# Altium integrated library WD Peripheral FD Controller.IntLib: 42 symbols
Pins are listed as number, name and electrical type; pins without a type are passive.

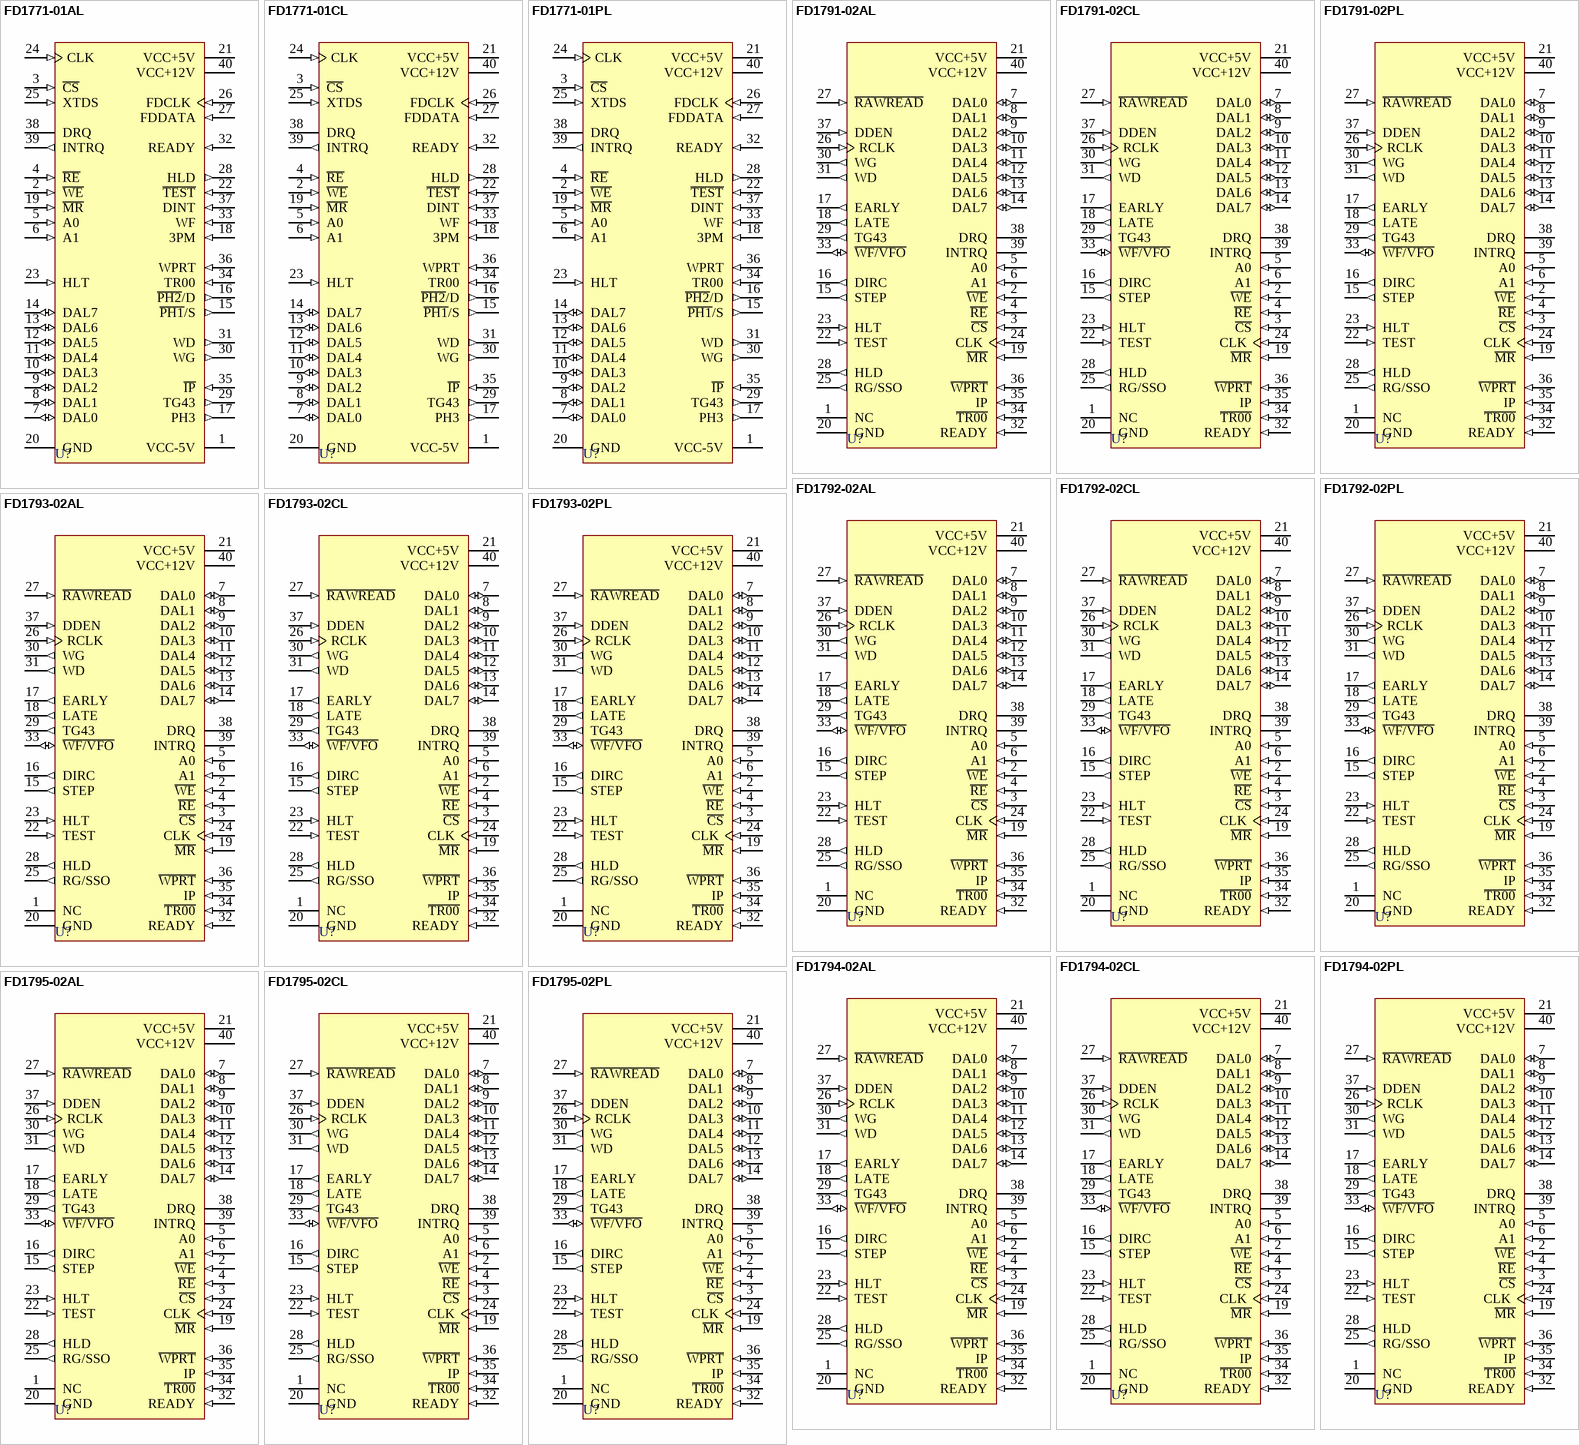
[diagram p0: symbols FD1771-01AL to FD1795-02PL]

## FD1771-01AL
designator U?
Floppy Disk Formatter/Controller; PackageDocument: 1984; Published: 8-Jun-2000; LatestRevisionDate: 4-Mar-2005; LatestRevisionNote: Stylized 3D Model Added.; DatasheetDocument: 1984; PackageReference: AL40; Publisher: Altium Limited; ComponentLink1Description: Manufacturer Link; ComponentLink1URL: http://www.wdc.com/
footprint AL40 (DIP; 40 Leads; Row Spacing 15.24 mm; Pitch 2.54 mm)
3D model AL40 (DIP; 40 Leads; Row Spacing 15.24 mm; Pitch 2.54 mm)
pins: 1 VCC-5V (power), 2 ~{WE} (in), 3 ~{CS} (in), 4 ~{RE} (in), 5 A0 (in), 6 A1 (in), 7 DAL0 (io), 8 DAL1 (io), 9 DAL2 (io), 10 DAL3 (io), 11 DAL4 (io), 12 DAL5 (io), 13 DAL6 (io), 14 DAL7 (io), 15 ~{PH1}/S (out), 16 ~{PH2}/D (out), 17 PH3 (out), 18 3PM (in), 19 ~{MR} (in), 20 GND (power), 21 VCC+5V (power), 22 ~{TEST} (in), 23 HLT (in), 24 CLK (in), 25 XTDS (in), 26 FDCLK (in), 27 FDDATA (in), 28 HLD (out), 29 TG43 (out), 30 WG (out), 31 WD (out), 32 READY (in), 33 WF (in), 34 TR00 (in), 35 ~{IP} (in), 36 WPRT (in), 37 DINT (in), 38 DRQ (oc), 39 INTRQ (out), 40 VCC+12V (power)

## FD1771-01CL
designator U?
Floppy Disk Formatter/Controller; PackageDocument: 1984; Published: 8-Jun-2000; LatestRevisionDate: 4-Mar-2005; LatestRevisionNote: Stylized 3D Model Added.; DatasheetDocument: 1984; PackageReference: CL40; Publisher: Altium Limited; ComponentLink1Description: Manufacturer Link; ComponentLink1URL: http://www.wdc.com/
footprint CL40 (DIP; 40 Leads; Row Spacing 15.24 mm; Pitch 2.54 mm)
3D model PL40 (DIP; 40 Leads; Row Spacing 15.24 mm; Pitch 2.54 mm)
pins: 1 VCC-5V (power), 2 ~{WE} (in), 3 ~{CS} (in), 4 ~{RE} (in), 5 A0 (in), 6 A1 (in), 7 DAL0 (io), 8 DAL1 (io), 9 DAL2 (io), 10 DAL3 (io), 11 DAL4 (io), 12 DAL5 (io), 13 DAL6 (io), 14 DAL7 (io), 15 ~{PH1}/S (out), 16 ~{PH2}/D (out), 17 PH3 (out), 18 3PM (in), 19 ~{MR} (in), 20 GND (power), 21 VCC+5V (power), 22 ~{TEST} (in), 23 HLT (in), 24 CLK (in), 25 XTDS (in), 26 FDCLK (in), 27 FDDATA (in), 28 HLD (out), 29 TG43 (out), 30 WG (out), 31 WD (out), 32 READY (in), 33 WF (in), 34 TR00 (in), 35 ~{IP} (in), 36 WPRT (in), 37 DINT (in), 38 DRQ (oc), 39 INTRQ (out), 40 VCC+12V (power)

## FD1771-01PL
designator U?
Floppy Disk Formatter/Controller; PackageDocument: 1984; Published: 8-Jun-2000; LatestRevisionDate: 4-Mar-2005; LatestRevisionNote: Stylized 3D Model Added.; DatasheetDocument: 1984; PackageReference: PL40; Publisher: Altium Limited; ComponentLink1Description: Manufacturer Link; ComponentLink1URL: http://www.wdc.com/
footprint PL40 (DIP; 40 Leads; Row Spacing 15.24 mm; Pitch 2.54 mm)
3D model PL40 (DIP; 40 Leads; Row Spacing 15.24 mm; Pitch 2.54 mm)
pins: 1 VCC-5V (power), 2 ~{WE} (in), 3 ~{CS} (in), 4 ~{RE} (in), 5 A0 (in), 6 A1 (in), 7 DAL0 (io), 8 DAL1 (io), 9 DAL2 (io), 10 DAL3 (io), 11 DAL4 (io), 12 DAL5 (io), 13 DAL6 (io), 14 DAL7 (io), 15 ~{PH1}/S (out), 16 ~{PH2}/D (out), 17 PH3 (out), 18 3PM (in), 19 ~{MR} (in), 20 GND (power), 21 VCC+5V (power), 22 ~{TEST} (in), 23 HLT (in), 24 CLK (in), 25 XTDS (in), 26 FDCLK (in), 27 FDDATA (in), 28 HLD (out), 29 TG43 (out), 30 WG (out), 31 WD (out), 32 READY (in), 33 WF (in), 34 TR00 (in), 35 ~{IP} (in), 36 WPRT (in), 37 DINT (in), 38 DRQ (oc), 39 INTRQ (out), 40 VCC+12V (power)

## FD1791-02AL
designator U?
Floppy Disk Formatter/Controller; PackageDocument: 1984; Published: 8-Jun-2000; LatestRevisionDate: 4-Mar-2005; LatestRevisionNote: Stylized 3D Model Added.; DatasheetDocument: 1984; PackageReference: AL40; Publisher: Altium Limited; ComponentLink1Description: Manufacturer Link; ComponentLink1URL: http://www.wdc.com/
footprint AL40 (DIP; 40 Leads; Row Spacing 15.24 mm; Pitch 2.54 mm)
3D model AL40 (DIP; 40 Leads; Row Spacing 15.24 mm; Pitch 2.54 mm)
pins: 1 NC, 2 ~{WE} (in), 3 ~{CS} (in), 4 ~{RE} (in), 5 A0 (in), 6 A1 (in), 7 DAL0 (io), 8 DAL1 (io), 9 DAL2 (io), 10 DAL3 (io), 11 DAL4 (io), 12 DAL5 (io), 13 DAL6 (io), 14 DAL7 (io), 15 STEP (out), 16 DIRC (out), 17 EARLY (out), 18 LATE (out), 19 ~{MR} (in), 20 GND (power), 21 VCC+5V (power), 22 TEST (in), 23 HLT (in), 24 CLK (in), 25 RG/SSO (out), 26 RCLK (in), 27 ~{RAWREAD} (in), 28 HLD (out), 29 TG43 (out), 30 WG (out), 31 WD (out), 32 READY (in), 33 ~{WF/VFO} (io), 34 ~{TR00} (in), 35 IP (in), 36 ~{WPRT} (in), 37 DDEN (in), 38 DRQ (oc), 39 INTRQ (oc), 40 VCC+12V (power)

## FD1791-02CL
designator U?
Floppy Disk Formatter/Controller; PackageDocument: 1984; Published: 8-Jun-2000; LatestRevisionDate: 4-Mar-2005; LatestRevisionNote: Stylized 3D Model Added.; DatasheetDocument: 1984; PackageReference: CL40; Publisher: Altium Limited; ComponentLink1Description: Manufacturer Link; ComponentLink1URL: http://www.wdc.com/
footprint CL40 (DIP; 40 Leads; Row Spacing 15.24 mm; Pitch 2.54 mm)
3D model PL40 (DIP; 40 Leads; Row Spacing 15.24 mm; Pitch 2.54 mm)
pins: 1 NC, 2 ~{WE} (in), 3 ~{CS} (in), 4 ~{RE} (in), 5 A0 (in), 6 A1 (in), 7 DAL0 (io), 8 DAL1 (io), 9 DAL2 (io), 10 DAL3 (io), 11 DAL4 (io), 12 DAL5 (io), 13 DAL6 (io), 14 DAL7 (io), 15 STEP (out), 16 DIRC (out), 17 EARLY (out), 18 LATE (out), 19 ~{MR} (in), 20 GND (power), 21 VCC+5V (power), 22 TEST (in), 23 HLT (in), 24 CLK (in), 25 RG/SSO (out), 26 RCLK (in), 27 ~{RAWREAD} (in), 28 HLD (out), 29 TG43 (out), 30 WG (out), 31 WD (out), 32 READY (in), 33 ~{WF/VFO} (io), 34 ~{TR00} (in), 35 IP (in), 36 ~{WPRT} (in), 37 DDEN (in), 38 DRQ (oc), 39 INTRQ (oc), 40 VCC+12V (power)

## FD1791-02PL
designator U?
Floppy Disk Formatter/Controller; PackageDocument: 1984; Published: 8-Jun-2000; LatestRevisionDate: 4-Mar-2005; LatestRevisionNote: Stylized 3D Model Added.; DatasheetDocument: 1984; PackageReference: PL40; Publisher: Altium Limited; ComponentLink1Description: Manufacturer Link; ComponentLink1URL: http://www.wdc.com/
footprint PL40 (DIP; 40 Leads; Row Spacing 15.24 mm; Pitch 2.54 mm)
3D model PL40 (DIP; 40 Leads; Row Spacing 15.24 mm; Pitch 2.54 mm)
pins: 1 NC, 2 ~{WE} (in), 3 ~{CS} (in), 4 ~{RE} (in), 5 A0 (in), 6 A1 (in), 7 DAL0 (io), 8 DAL1 (io), 9 DAL2 (io), 10 DAL3 (io), 11 DAL4 (io), 12 DAL5 (io), 13 DAL6 (io), 14 DAL7 (io), 15 STEP (out), 16 DIRC (out), 17 EARLY (out), 18 LATE (out), 19 ~{MR} (in), 20 GND (power), 21 VCC+5V (power), 22 TEST (in), 23 HLT (in), 24 CLK (in), 25 RG/SSO (out), 26 RCLK (in), 27 ~{RAWREAD} (in), 28 HLD (out), 29 TG43 (out), 30 WG (out), 31 WD (out), 32 READY (in), 33 ~{WF/VFO} (io), 34 ~{TR00} (in), 35 IP (in), 36 ~{WPRT} (in), 37 DDEN (in), 38 DRQ (oc), 39 INTRQ (oc), 40 VCC+12V (power)

## FD1792-02AL
designator U?
Floppy Disk Formatter/Controller; PackageDocument: 1984; Published: 8-Jun-2000; LatestRevisionDate: 4-Mar-2005; LatestRevisionNote: Stylized 3D Model Added.; DatasheetDocument: 1984; PackageReference: AL40; Publisher: Altium Limited; ComponentLink1Description: Manufacturer Link; ComponentLink1URL: http://www.wdc.com/
footprint AL40 (DIP; 40 Leads; Row Spacing 15.24 mm; Pitch 2.54 mm)
3D model AL40 (DIP; 40 Leads; Row Spacing 15.24 mm; Pitch 2.54 mm)
pins: 1 NC, 2 ~{WE} (in), 3 ~{CS} (in), 4 ~{RE} (in), 5 A0 (in), 6 A1 (in), 7 DAL0 (io), 8 DAL1 (io), 9 DAL2 (io), 10 DAL3 (io), 11 DAL4 (io), 12 DAL5 (io), 13 DAL6 (io), 14 DAL7 (io), 15 STEP (out), 16 DIRC (out), 17 EARLY (out), 18 LATE (out), 19 ~{MR} (in), 20 GND (power), 21 VCC+5V (power), 22 TEST (in), 23 HLT (in), 24 CLK (in), 25 RG/SSO (out), 26 RCLK (in), 27 ~{RAWREAD} (in), 28 HLD (out), 29 TG43 (out), 30 WG (out), 31 WD (out), 32 READY (in), 33 ~{WF/VFO} (io), 34 ~{TR00} (in), 35 IP (in), 36 ~{WPRT} (in), 37 DDEN (in), 38 DRQ (oc), 39 INTRQ (oc), 40 VCC+12V (power)

## FD1792-02CL
designator U?
Floppy Disk Formatter/Controller; PackageDocument: 1984; Published: 8-Jun-2000; LatestRevisionDate: 4-Mar-2005; LatestRevisionNote: Stylized 3D Model Added.; DatasheetDocument: 1984; PackageReference: CL40; Publisher: Altium Limited; ComponentLink1Description: Manufacturer Link; ComponentLink1URL: http://www.wdc.com/
footprint CL40 (DIP; 40 Leads; Row Spacing 15.24 mm; Pitch 2.54 mm)
3D model PL40 (DIP; 40 Leads; Row Spacing 15.24 mm; Pitch 2.54 mm)
pins: 1 NC, 2 ~{WE} (in), 3 ~{CS} (in), 4 ~{RE} (in), 5 A0 (in), 6 A1 (in), 7 DAL0 (io), 8 DAL1 (io), 9 DAL2 (io), 10 DAL3 (io), 11 DAL4 (io), 12 DAL5 (io), 13 DAL6 (io), 14 DAL7 (io), 15 STEP (out), 16 DIRC (out), 17 EARLY (out), 18 LATE (out), 19 ~{MR} (in), 20 GND (power), 21 VCC+5V (power), 22 TEST (in), 23 HLT (in), 24 CLK (in), 25 RG/SSO (out), 26 RCLK (in), 27 ~{RAWREAD} (in), 28 HLD (out), 29 TG43 (out), 30 WG (out), 31 WD (out), 32 READY (in), 33 ~{WF/VFO} (io), 34 ~{TR00} (in), 35 IP (in), 36 ~{WPRT} (in), 37 DDEN (in), 38 DRQ (oc), 39 INTRQ (oc), 40 VCC+12V (power)

## FD1792-02PL
designator U?
Floppy Disk Formatter/Controller; PackageDocument: 1984; Published: 8-Jun-2000; LatestRevisionDate: 4-Mar-2005; LatestRevisionNote: Stylized 3D Model Added.; DatasheetDocument: 1984; PackageReference: PL40; Publisher: Altium Limited; ComponentLink1Description: Manufacturer Link; ComponentLink1URL: http://www.wdc.com/
footprint PL40 (DIP; 40 Leads; Row Spacing 15.24 mm; Pitch 2.54 mm)
3D model PL40 (DIP; 40 Leads; Row Spacing 15.24 mm; Pitch 2.54 mm)
pins: 1 NC, 2 ~{WE} (in), 3 ~{CS} (in), 4 ~{RE} (in), 5 A0 (in), 6 A1 (in), 7 DAL0 (io), 8 DAL1 (io), 9 DAL2 (io), 10 DAL3 (io), 11 DAL4 (io), 12 DAL5 (io), 13 DAL6 (io), 14 DAL7 (io), 15 STEP (out), 16 DIRC (out), 17 EARLY (out), 18 LATE (out), 19 ~{MR} (in), 20 GND (power), 21 VCC+5V (power), 22 TEST (in), 23 HLT (in), 24 CLK (in), 25 RG/SSO (out), 26 RCLK (in), 27 ~{RAWREAD} (in), 28 HLD (out), 29 TG43 (out), 30 WG (out), 31 WD (out), 32 READY (in), 33 ~{WF/VFO} (io), 34 ~{TR00} (in), 35 IP (in), 36 ~{WPRT} (in), 37 DDEN (in), 38 DRQ (oc), 39 INTRQ (oc), 40 VCC+12V (power)

## FD1793-02AL
designator U?
Floppy Disk Formatter/Controller; PackageDocument: 1984; Published: 8-Jun-2000; LatestRevisionDate: 4-Mar-2005; LatestRevisionNote: Stylized 3D Model Added.; DatasheetDocument: 1984; PackageReference: AL40; Publisher: Altium Limited; ComponentLink1Description: Manufacturer Link; ComponentLink1URL: http://www.wdc.com/
footprint AL40 (DIP; 40 Leads; Row Spacing 15.24 mm; Pitch 2.54 mm)
3D model AL40 (DIP; 40 Leads; Row Spacing 15.24 mm; Pitch 2.54 mm)
pins: 1 NC, 2 ~{WE} (in), 3 ~{CS} (in), 4 ~{RE} (in), 5 A0 (in), 6 A1 (in), 7 DAL0 (io), 8 DAL1 (io), 9 DAL2 (io), 10 DAL3 (io), 11 DAL4 (io), 12 DAL5 (io), 13 DAL6 (io), 14 DAL7 (io), 15 STEP (out), 16 DIRC (out), 17 EARLY (out), 18 LATE (out), 19 ~{MR} (in), 20 GND (power), 21 VCC+5V (power), 22 TEST (in), 23 HLT (in), 24 CLK (in), 25 RG/SSO (out), 26 RCLK (in), 27 ~{RAWREAD} (in), 28 HLD (out), 29 TG43 (out), 30 WG (out), 31 WD (out), 32 READY (in), 33 ~{WF/VFO} (io), 34 ~{TR00} (in), 35 IP (in), 36 ~{WPRT} (in), 37 DDEN (in), 38 DRQ (oc), 39 INTRQ (oc), 40 VCC+12V (power)

## FD1793-02CL
designator U?
Floppy Disk Formatter/Controller; PackageDocument: 1984; Published: 8-Jun-2000; LatestRevisionDate: 4-Mar-2005; LatestRevisionNote: Stylized 3D Model Added.; DatasheetDocument: 1984; PackageReference: CL40; Publisher: Altium Limited; ComponentLink1Description: Manufacturer Link; ComponentLink1URL: http://www.wdc.com/
footprint CL40 (DIP; 40 Leads; Row Spacing 15.24 mm; Pitch 2.54 mm)
3D model PL40 (DIP; 40 Leads; Row Spacing 15.24 mm; Pitch 2.54 mm)
pins: 1 NC, 2 ~{WE} (in), 3 ~{CS} (in), 4 ~{RE} (in), 5 A0 (in), 6 A1 (in), 7 DAL0 (io), 8 DAL1 (io), 9 DAL2 (io), 10 DAL3 (io), 11 DAL4 (io), 12 DAL5 (io), 13 DAL6 (io), 14 DAL7 (io), 15 STEP (out), 16 DIRC (out), 17 EARLY (out), 18 LATE (out), 19 ~{MR} (in), 20 GND (power), 21 VCC+5V (power), 22 TEST (in), 23 HLT (in), 24 CLK (in), 25 RG/SSO (out), 26 RCLK (in), 27 ~{RAWREAD} (in), 28 HLD (out), 29 TG43 (out), 30 WG (out), 31 WD (out), 32 READY (in), 33 ~{WF/VFO} (io), 34 ~{TR00} (in), 35 IP (in), 36 ~{WPRT} (in), 37 DDEN (in), 38 DRQ (oc), 39 INTRQ (oc), 40 VCC+12V (power)

## FD1793-02PL
designator U?
Floppy Disk Formatter/Controller; PackageDocument: 1984; Published: 8-Jun-2000; LatestRevisionDate: 4-Mar-2005; LatestRevisionNote: Stylized 3D Model Added.; DatasheetDocument: 1984; PackageReference: PL40; Publisher: Altium Limited; ComponentLink1Description: Manufacturer Link; ComponentLink1URL: http://www.wdc.com/
footprint PL40 (DIP; 40 Leads; Row Spacing 15.24 mm; Pitch 2.54 mm)
3D model PL40 (DIP; 40 Leads; Row Spacing 15.24 mm; Pitch 2.54 mm)
pins: 1 NC, 2 ~{WE} (in), 3 ~{CS} (in), 4 ~{RE} (in), 5 A0 (in), 6 A1 (in), 7 DAL0 (io), 8 DAL1 (io), 9 DAL2 (io), 10 DAL3 (io), 11 DAL4 (io), 12 DAL5 (io), 13 DAL6 (io), 14 DAL7 (io), 15 STEP (out), 16 DIRC (out), 17 EARLY (out), 18 LATE (out), 19 ~{MR} (in), 20 GND (power), 21 VCC+5V (power), 22 TEST (in), 23 HLT (in), 24 CLK (in), 25 RG/SSO (out), 26 RCLK (in), 27 ~{RAWREAD} (in), 28 HLD (out), 29 TG43 (out), 30 WG (out), 31 WD (out), 32 READY (in), 33 ~{WF/VFO} (io), 34 ~{TR00} (in), 35 IP (in), 36 ~{WPRT} (in), 37 DDEN (in), 38 DRQ (oc), 39 INTRQ (oc), 40 VCC+12V (power)

## FD1794-02AL
designator U?
Floppy Disk Formatter/Controller; PackageDocument: 1984; Published: 8-Jun-2000; LatestRevisionDate: 4-Mar-2005; LatestRevisionNote: Stylized 3D Model Added.; DatasheetDocument: 1984; PackageReference: AL40; Publisher: Altium Limited; ComponentLink1Description: Manufacturer Link; ComponentLink1URL: http://www.wdc.com/
footprint AL40 (DIP; 40 Leads; Row Spacing 15.24 mm; Pitch 2.54 mm)
3D model AL40 (DIP; 40 Leads; Row Spacing 15.24 mm; Pitch 2.54 mm)
pins: 1 NC, 2 ~{WE} (in), 3 ~{CS} (in), 4 ~{RE} (in), 5 A0 (in), 6 A1 (in), 7 DAL0 (io), 8 DAL1 (io), 9 DAL2 (io), 10 DAL3 (io), 11 DAL4 (io), 12 DAL5 (io), 13 DAL6 (io), 14 DAL7 (io), 15 STEP (out), 16 DIRC (out), 17 EARLY (out), 18 LATE (out), 19 ~{MR} (in), 20 GND (power), 21 VCC+5V (power), 22 TEST (in), 23 HLT (in), 24 CLK (in), 25 RG/SSO (out), 26 RCLK (in), 27 ~{RAWREAD} (in), 28 HLD (out), 29 TG43 (out), 30 WG (out), 31 WD (out), 32 READY (in), 33 ~{WF/VFO} (io), 34 ~{TR00} (in), 35 IP (in), 36 ~{WPRT} (in), 37 DDEN (in), 38 DRQ (oc), 39 INTRQ (oc), 40 VCC+12V (power)

## FD1794-02CL
designator U?
Floppy Disk Formatter/Controller; PackageDocument: 1984; Published: 8-Jun-2000; LatestRevisionDate: 4-Mar-2005; LatestRevisionNote: Stylized 3D Model Added.; DatasheetDocument: 1984; PackageReference: CL40; Publisher: Altium Limited; ComponentLink1Description: Manufacturer Link; ComponentLink1URL: http://www.wdc.com/
footprint CL40 (DIP; 40 Leads; Row Spacing 15.24 mm; Pitch 2.54 mm)
3D model PL40 (DIP; 40 Leads; Row Spacing 15.24 mm; Pitch 2.54 mm)
pins: 1 NC, 2 ~{WE} (in), 3 ~{CS} (in), 4 ~{RE} (in), 5 A0 (in), 6 A1 (in), 7 DAL0 (io), 8 DAL1 (io), 9 DAL2 (io), 10 DAL3 (io), 11 DAL4 (io), 12 DAL5 (io), 13 DAL6 (io), 14 DAL7 (io), 15 STEP (out), 16 DIRC (out), 17 EARLY (out), 18 LATE (out), 19 ~{MR} (in), 20 GND (power), 21 VCC+5V (power), 22 TEST (in), 23 HLT (in), 24 CLK (in), 25 RG/SSO (out), 26 RCLK (in), 27 ~{RAWREAD} (in), 28 HLD (out), 29 TG43 (out), 30 WG (out), 31 WD (out), 32 READY (in), 33 ~{WF/VFO} (io), 34 ~{TR00} (in), 35 IP (in), 36 ~{WPRT} (in), 37 DDEN (in), 38 DRQ (oc), 39 INTRQ (oc), 40 VCC+12V (power)

## FD1794-02PL
designator U?
Floppy Disk Formatter/Controller; PackageDocument: 1984; Published: 8-Jun-2000; LatestRevisionDate: 4-Mar-2005; LatestRevisionNote: Stylized 3D Model Added.; DatasheetDocument: 1984; PackageReference: PL40; Publisher: Altium Limited; ComponentLink1Description: Manufacturer Link; ComponentLink1URL: http://www.wdc.com/
footprint PL40 (DIP; 40 Leads; Row Spacing 15.24 mm; Pitch 2.54 mm)
3D model PL40 (DIP; 40 Leads; Row Spacing 15.24 mm; Pitch 2.54 mm)
pins: 1 NC, 2 ~{WE} (in), 3 ~{CS} (in), 4 ~{RE} (in), 5 A0 (in), 6 A1 (in), 7 DAL0 (io), 8 DAL1 (io), 9 DAL2 (io), 10 DAL3 (io), 11 DAL4 (io), 12 DAL5 (io), 13 DAL6 (io), 14 DAL7 (io), 15 STEP (out), 16 DIRC (out), 17 EARLY (out), 18 LATE (out), 19 ~{MR} (in), 20 GND (power), 21 VCC+5V (power), 22 TEST (in), 23 HLT (in), 24 CLK (in), 25 RG/SSO (out), 26 RCLK (in), 27 ~{RAWREAD} (in), 28 HLD (out), 29 TG43 (out), 30 WG (out), 31 WD (out), 32 READY (in), 33 ~{WF/VFO} (io), 34 ~{TR00} (in), 35 IP (in), 36 ~{WPRT} (in), 37 DDEN (in), 38 DRQ (oc), 39 INTRQ (oc), 40 VCC+12V (power)

## FD1795-02AL
designator U?
Floppy Disk Formatter/Controller; PackageDocument: 1984; Published: 8-Jun-2000; LatestRevisionDate: 4-Mar-2005; LatestRevisionNote: Stylized 3D Model Added.; DatasheetDocument: 1984; PackageReference: AL40; Publisher: Altium Limited; ComponentLink1Description: Manufacturer Link; ComponentLink1URL: http://www.wdc.com/
footprint AL40 (DIP; 40 Leads; Row Spacing 15.24 mm; Pitch 2.54 mm)
3D model AL40 (DIP; 40 Leads; Row Spacing 15.24 mm; Pitch 2.54 mm)
pins: 1 NC, 2 ~{WE} (in), 3 ~{CS} (in), 4 ~{RE} (in), 5 A0 (in), 6 A1 (in), 7 DAL0 (io), 8 DAL1 (io), 9 DAL2 (io), 10 DAL3 (io), 11 DAL4 (io), 12 DAL5 (io), 13 DAL6 (io), 14 DAL7 (io), 15 STEP (out), 16 DIRC (out), 17 EARLY (out), 18 LATE (out), 19 ~{MR} (in), 20 GND (power), 21 VCC+5V (power), 22 TEST (in), 23 HLT (in), 24 CLK (in), 25 RG/SSO (out), 26 RCLK (in), 27 ~{RAWREAD} (in), 28 HLD (out), 29 TG43 (out), 30 WG (out), 31 WD (out), 32 READY (in), 33 ~{WF/VFO} (io), 34 ~{TR00} (in), 35 IP (in), 36 ~{WPRT} (in), 37 DDEN (in), 38 DRQ (oc), 39 INTRQ (oc), 40 VCC+12V (power)

## FD1795-02CL
designator U?
Floppy Disk Formatter/Controller; PackageDocument: 1984; Published: 8-Jun-2000; LatestRevisionDate: 4-Mar-2005; LatestRevisionNote: Stylized 3D Model Added.; DatasheetDocument: 1984; PackageReference: CL40; Publisher: Altium Limited; ComponentLink1Description: Manufacturer Link; ComponentLink1URL: http://www.wdc.com/
footprint CL40 (DIP; 40 Leads; Row Spacing 15.24 mm; Pitch 2.54 mm)
3D model PL40 (DIP; 40 Leads; Row Spacing 15.24 mm; Pitch 2.54 mm)
pins: 1 NC, 2 ~{WE} (in), 3 ~{CS} (in), 4 ~{RE} (in), 5 A0 (in), 6 A1 (in), 7 DAL0 (io), 8 DAL1 (io), 9 DAL2 (io), 10 DAL3 (io), 11 DAL4 (io), 12 DAL5 (io), 13 DAL6 (io), 14 DAL7 (io), 15 STEP (out), 16 DIRC (out), 17 EARLY (out), 18 LATE (out), 19 ~{MR} (in), 20 GND (power), 21 VCC+5V (power), 22 TEST (in), 23 HLT (in), 24 CLK (in), 25 RG/SSO (out), 26 RCLK (in), 27 ~{RAWREAD} (in), 28 HLD (out), 29 TG43 (out), 30 WG (out), 31 WD (out), 32 READY (in), 33 ~{WF/VFO} (io), 34 ~{TR00} (in), 35 IP (in), 36 ~{WPRT} (in), 37 DDEN (in), 38 DRQ (oc), 39 INTRQ (oc), 40 VCC+12V (power)

## FD1795-02PL
designator U?
Floppy Disk Formatter/Controller; PackageDocument: 1984; Published: 8-Jun-2000; LatestRevisionDate: 4-Mar-2005; LatestRevisionNote: Stylized 3D Model Added.; DatasheetDocument: 1984; PackageReference: PL40; Publisher: Altium Limited; ComponentLink1Description: Manufacturer Link; ComponentLink1URL: http://www.wdc.com/
footprint PL40 (DIP; 40 Leads; Row Spacing 15.24 mm; Pitch 2.54 mm)
3D model PL40 (DIP; 40 Leads; Row Spacing 15.24 mm; Pitch 2.54 mm)
pins: 1 NC, 2 ~{WE} (in), 3 ~{CS} (in), 4 ~{RE} (in), 5 A0 (in), 6 A1 (in), 7 DAL0 (io), 8 DAL1 (io), 9 DAL2 (io), 10 DAL3 (io), 11 DAL4 (io), 12 DAL5 (io), 13 DAL6 (io), 14 DAL7 (io), 15 STEP (out), 16 DIRC (out), 17 EARLY (out), 18 LATE (out), 19 ~{MR} (in), 20 GND (power), 21 VCC+5V (power), 22 TEST (in), 23 HLT (in), 24 CLK (in), 25 RG/SSO (out), 26 RCLK (in), 27 ~{RAWREAD} (in), 28 HLD (out), 29 TG43 (out), 30 WG (out), 31 WD (out), 32 READY (in), 33 ~{WF/VFO} (io), 34 ~{TR00} (in), 35 IP (in), 36 ~{WPRT} (in), 37 DDEN (in), 38 DRQ (oc), 39 INTRQ (oc), 40 VCC+12V (power)

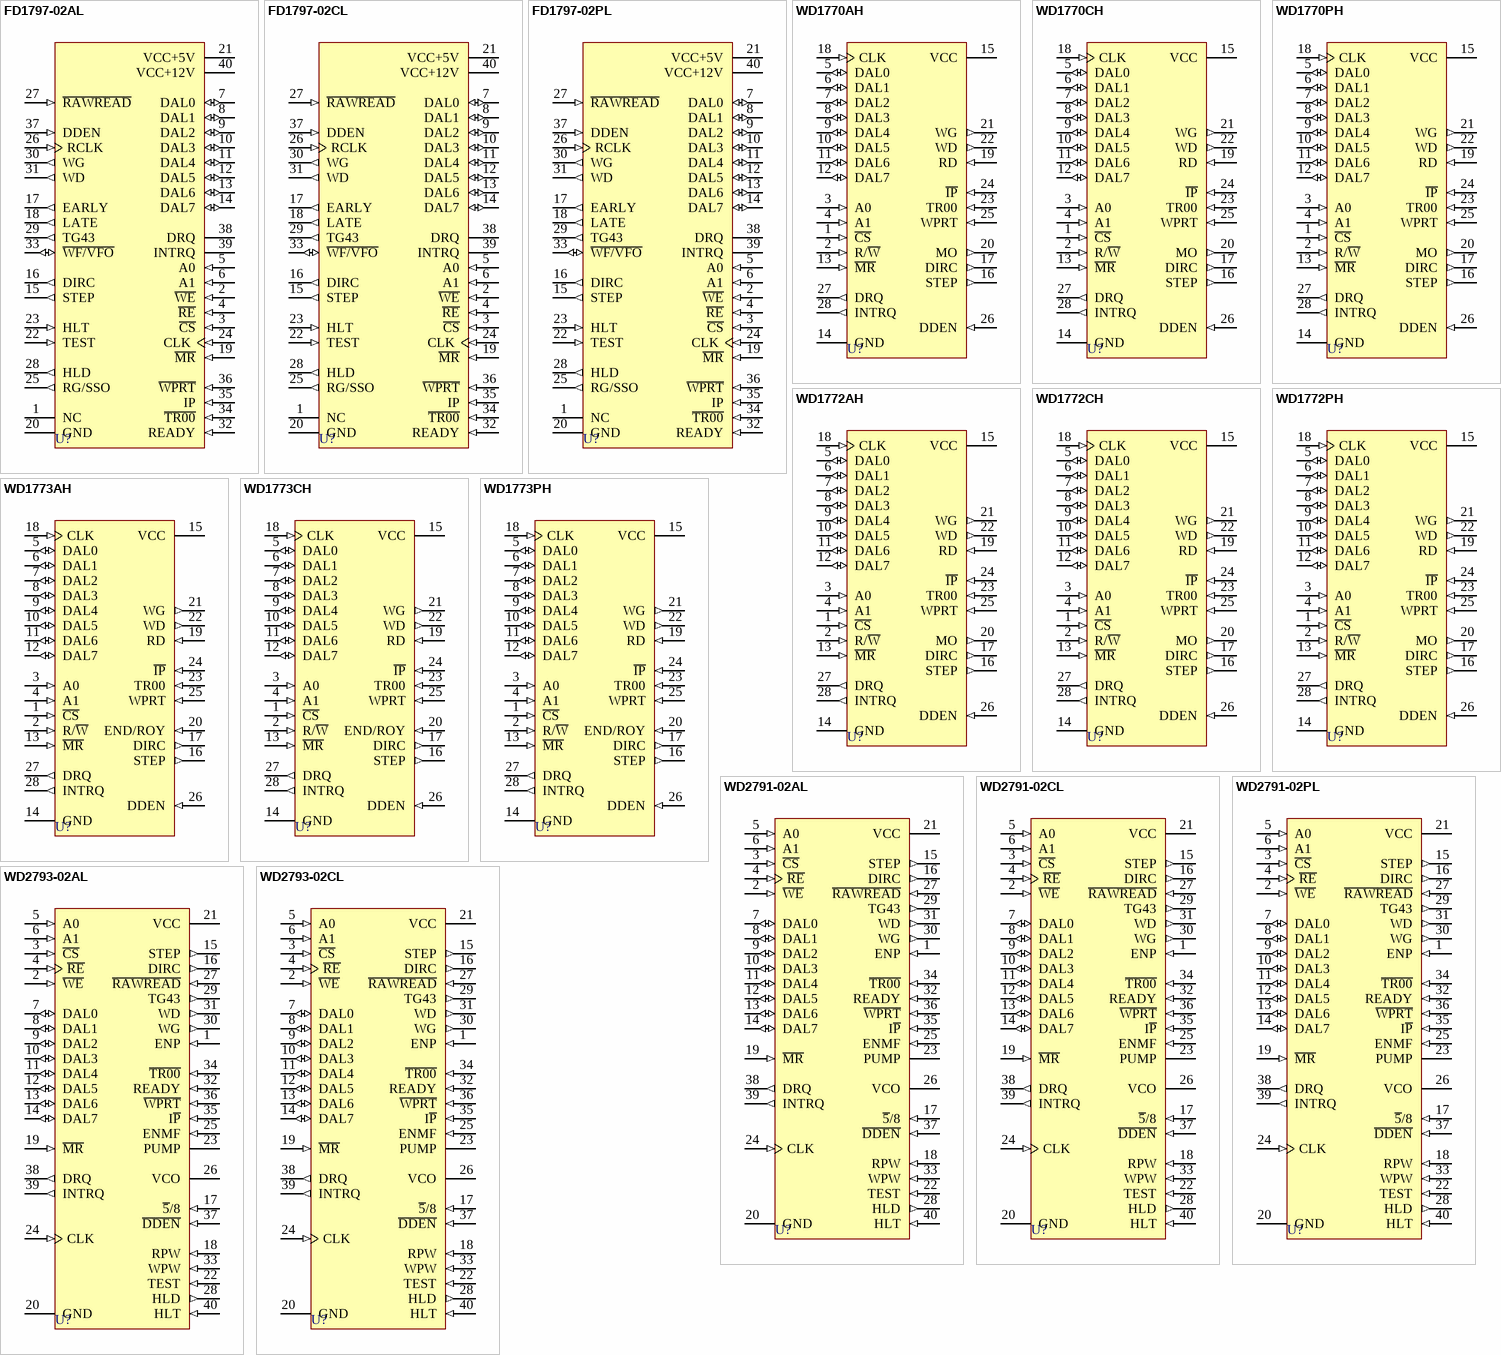
[diagram p1: symbols FD1797-02AL to WD2793-02CL]

## FD1797-02AL
designator U?
Floppy Disk Formatter/Controller; PackageDocument: 1984; Published: 8-Jun-2000; LatestRevisionDate: 4-Mar-2005; LatestRevisionNote: Stylized 3D Model Added.; DatasheetDocument: 1984; PackageReference: AL40; Publisher: Altium Limited; ComponentLink1Description: Manufacturer Link; ComponentLink1URL: http://www.wdc.com/
footprint AL40 (DIP; 40 Leads; Row Spacing 15.24 mm; Pitch 2.54 mm)
3D model AL40 (DIP; 40 Leads; Row Spacing 15.24 mm; Pitch 2.54 mm)
pins: 1 NC, 2 ~{WE} (in), 3 ~{CS} (in), 4 ~{RE} (in), 5 A0 (in), 6 A1 (in), 7 DAL0 (io), 8 DAL1 (io), 9 DAL2 (io), 10 DAL3 (io), 11 DAL4 (io), 12 DAL5 (io), 13 DAL6 (io), 14 DAL7 (io), 15 STEP (out), 16 DIRC (out), 17 EARLY (out), 18 LATE (out), 19 ~{MR} (in), 20 GND (power), 21 VCC+5V (power), 22 TEST (in), 23 HLT (in), 24 CLK (in), 25 RG/SSO (out), 26 RCLK (in), 27 ~{RAWREAD} (in), 28 HLD (out), 29 TG43 (out), 30 WG (out), 31 WD (out), 32 READY (in), 33 ~{WF/VFO} (io), 34 ~{TR00} (in), 35 IP (in), 36 ~{WPRT} (in), 37 DDEN (in), 38 DRQ (oc), 39 INTRQ (oc), 40 VCC+12V (power)

## FD1797-02CL
designator U?
Floppy Disk Formatter/Controller; PackageDocument: 1984; Published: 8-Jun-2000; LatestRevisionDate: 4-Mar-2005; LatestRevisionNote: Stylized 3D Model Added.; DatasheetDocument: 1984; PackageReference: CL40; Publisher: Altium Limited; ComponentLink1Description: Manufacturer Link; ComponentLink1URL: http://www.wdc.com/
footprint CL40 (DIP; 40 Leads; Row Spacing 15.24 mm; Pitch 2.54 mm)
3D model PL40 (DIP; 40 Leads; Row Spacing 15.24 mm; Pitch 2.54 mm)
pins: 1 NC, 2 ~{WE} (in), 3 ~{CS} (in), 4 ~{RE} (in), 5 A0 (in), 6 A1 (in), 7 DAL0 (io), 8 DAL1 (io), 9 DAL2 (io), 10 DAL3 (io), 11 DAL4 (io), 12 DAL5 (io), 13 DAL6 (io), 14 DAL7 (io), 15 STEP (out), 16 DIRC (out), 17 EARLY (out), 18 LATE (out), 19 ~{MR} (in), 20 GND (power), 21 VCC+5V (power), 22 TEST (in), 23 HLT (in), 24 CLK (in), 25 RG/SSO (out), 26 RCLK (in), 27 ~{RAWREAD} (in), 28 HLD (out), 29 TG43 (out), 30 WG (out), 31 WD (out), 32 READY (in), 33 ~{WF/VFO} (io), 34 ~{TR00} (in), 35 IP (in), 36 ~{WPRT} (in), 37 DDEN (in), 38 DRQ (oc), 39 INTRQ (oc), 40 VCC+12V (power)

## FD1797-02PL
designator U?
Floppy Disk Formatter/Controller; PackageDocument: 1984; Published: 8-Jun-2000; LatestRevisionDate: 4-Mar-2005; LatestRevisionNote: Stylized 3D Model Added.; DatasheetDocument: 1984; PackageReference: PL40; Publisher: Altium Limited; ComponentLink1Description: Manufacturer Link; ComponentLink1URL: http://www.wdc.com/
footprint PL40 (DIP; 40 Leads; Row Spacing 15.24 mm; Pitch 2.54 mm)
3D model PL40 (DIP; 40 Leads; Row Spacing 15.24 mm; Pitch 2.54 mm)
pins: 1 NC, 2 ~{WE} (in), 3 ~{CS} (in), 4 ~{RE} (in), 5 A0 (in), 6 A1 (in), 7 DAL0 (io), 8 DAL1 (io), 9 DAL2 (io), 10 DAL3 (io), 11 DAL4 (io), 12 DAL5 (io), 13 DAL6 (io), 14 DAL7 (io), 15 STEP (out), 16 DIRC (out), 17 EARLY (out), 18 LATE (out), 19 ~{MR} (in), 20 GND (power), 21 VCC+5V (power), 22 TEST (in), 23 HLT (in), 24 CLK (in), 25 RG/SSO (out), 26 RCLK (in), 27 ~{RAWREAD} (in), 28 HLD (out), 29 TG43 (out), 30 WG (out), 31 WD (out), 32 READY (in), 33 ~{WF/VFO} (io), 34 ~{TR00} (in), 35 IP (in), 36 ~{WPRT} (in), 37 DDEN (in), 38 DRQ (oc), 39 INTRQ (oc), 40 VCC+12V (power)

## WD1770AH
designator U?
Floppy Disk Controller/Formatter; PackageDocument: 1984; Published: 8-Jun-2000; LatestRevisionDate: 4-Mar-2005; LatestRevisionNote: Stylized 3D Model Added.; DatasheetDocument: 1984; PackageReference: AH28; Publisher: Altium Limited; ComponentLink1Description: Manufacturer Link; ComponentLink1URL: http://www.wdc.com/
footprint AH28 (DIP; 28 Leads; Row Spacing 15.24 mm; Pitch 2.54 mm)
3D model AH28 (DIP; 28 Leads; Row Spacing 15.24 mm; Pitch 2.54 mm)
pins: 1 ~{CS} (in), 2 R/~{W} (in), 3 A0 (in), 4 A1 (in), 5 DAL0 (io), 6 DAL1 (io), 7 DAL2 (io), 8 DAL3 (io), 9 DAL4 (io), 10 DAL5 (io), 11 DAL6 (io), 12 DAL7 (io), 13 ~{MR} (in), 14 GND (power), 15 VCC (power), 16 STEP (out), 17 DIRC (out), 18 CLK (in), 19 RD (in), 20 MO (out), 21 WG (out), 22 WD (out), 23 TR00 (in), 24 ~{IP} (in), 25 WPRT (in), 26 DDEN (in), 27 DRQ (out), 28 INTRQ (out)

## WD1770CH
designator U?
Floppy Disk Controller/Formatter; PackageDocument: 1984; Published: 8-Jun-2000; LatestRevisionDate: 4-Mar-2005; LatestRevisionNote: Stylized 3D Model Added.; DatasheetDocument: 1984; PackageReference: CH28; Publisher: Altium Limited; ComponentLink1Description: Manufacturer Link; ComponentLink1URL: http://www.wdc.com/
footprint CH28 (DIP; 28 Leads; Row Spacing 15.24 mm; Pitch 2.54 mm)
3D model PH28 (DIP; 28 Leads; Row Spacing 15.24 mm; Pitch 2.54 mm)
pins: 1 ~{CS} (in), 2 R/~{W} (in), 3 A0 (in), 4 A1 (in), 5 DAL0 (io), 6 DAL1 (io), 7 DAL2 (io), 8 DAL3 (io), 9 DAL4 (io), 10 DAL5 (io), 11 DAL6 (io), 12 DAL7 (io), 13 ~{MR} (in), 14 GND (power), 15 VCC (power), 16 STEP (out), 17 DIRC (out), 18 CLK (in), 19 RD (in), 20 MO (out), 21 WG (out), 22 WD (out), 23 TR00 (in), 24 ~{IP} (in), 25 WPRT (in), 26 DDEN (in), 27 DRQ (out), 28 INTRQ (out)

## WD1770PH
designator U?
Floppy Disk Controller/Formatter; PackageDocument: 1984; Published: 8-Jun-2000; LatestRevisionDate: 4-Mar-2005; LatestRevisionNote: Stylized 3D Model Added.; DatasheetDocument: 1984; PackageReference: PH28; Publisher: Altium Limited; ComponentLink1Description: Manufacturer Link; ComponentLink1URL: http://www.wdc.com/
footprint PH28 (DIP; 28 Leads; Row Spacing 15.24 mm; Pitch 2.54 mm)
3D model PH28 (DIP; 28 Leads; Row Spacing 15.24 mm; Pitch 2.54 mm)
pins: 1 ~{CS} (in), 2 R/~{W} (in), 3 A0 (in), 4 A1 (in), 5 DAL0 (io), 6 DAL1 (io), 7 DAL2 (io), 8 DAL3 (io), 9 DAL4 (io), 10 DAL5 (io), 11 DAL6 (io), 12 DAL7 (io), 13 ~{MR} (in), 14 GND (power), 15 VCC (power), 16 STEP (out), 17 DIRC (out), 18 CLK (in), 19 RD (in), 20 MO (out), 21 WG (out), 22 WD (out), 23 TR00 (in), 24 ~{IP} (in), 25 WPRT (in), 26 DDEN (in), 27 DRQ (out), 28 INTRQ (out)

## WD1772AH
designator U?
Floppy Disk Controller/Formatter; PackageDocument: 1984; Published: 8-Jun-2000; LatestRevisionDate: 4-Mar-2005; LatestRevisionNote: Stylized 3D Model Added.; DatasheetDocument: 1984; PackageReference: AH28; Publisher: Altium Limited; ComponentLink1Description: Manufacturer Link; ComponentLink1URL: http://www.wdc.com/
footprint AH28 (DIP; 28 Leads; Row Spacing 15.24 mm; Pitch 2.54 mm)
3D model AH28 (DIP; 28 Leads; Row Spacing 15.24 mm; Pitch 2.54 mm)
pins: 1 ~{CS} (in), 2 R/~{W} (in), 3 A0 (in), 4 A1 (in), 5 DAL0 (io), 6 DAL1 (io), 7 DAL2 (io), 8 DAL3 (io), 9 DAL4 (io), 10 DAL5 (io), 11 DAL6 (io), 12 DAL7 (io), 13 ~{MR} (in), 14 GND (power), 15 VCC (power), 16 STEP (out), 17 DIRC (out), 18 CLK (in), 19 RD (in), 20 MO (out), 21 WG (out), 22 WD (out), 23 TR00 (in), 24 ~{IP} (in), 25 WPRT (in), 26 DDEN (in), 27 DRQ (out), 28 INTRQ (out)

## WD1772CH
designator U?
Floppy Disk Controller/Formatter; PackageDocument: 1984; Published: 8-Jun-2000; LatestRevisionDate: 4-Mar-2005; LatestRevisionNote: Stylized 3D Model Added.; DatasheetDocument: 1984; PackageReference: CH28; Publisher: Altium Limited; ComponentLink1Description: Manufacturer Link; ComponentLink1URL: http://www.wdc.com/
footprint CH28 (DIP; 28 Leads; Row Spacing 15.24 mm; Pitch 2.54 mm)
3D model PH28 (DIP; 28 Leads; Row Spacing 15.24 mm; Pitch 2.54 mm)
pins: 1 ~{CS} (in), 2 R/~{W} (in), 3 A0 (in), 4 A1 (in), 5 DAL0 (io), 6 DAL1 (io), 7 DAL2 (io), 8 DAL3 (io), 9 DAL4 (io), 10 DAL5 (io), 11 DAL6 (io), 12 DAL7 (io), 13 ~{MR} (in), 14 GND (power), 15 VCC (power), 16 STEP (out), 17 DIRC (out), 18 CLK (in), 19 RD (in), 20 MO (out), 21 WG (out), 22 WD (out), 23 TR00 (in), 24 ~{IP} (in), 25 WPRT (in), 26 DDEN (in), 27 DRQ (out), 28 INTRQ (out)

## WD1772PH
designator U?
Floppy Disk Controller/Formatter; PackageDocument: 1984; Published: 8-Jun-2000; LatestRevisionDate: 4-Mar-2005; LatestRevisionNote: Stylized 3D Model Added.; DatasheetDocument: 1984; PackageReference: PH28; Publisher: Altium Limited; ComponentLink1Description: Manufacturer Link; ComponentLink1URL: http://www.wdc.com/
footprint PH28 (DIP; 28 Leads; Row Spacing 15.24 mm; Pitch 2.54 mm)
3D model PH28 (DIP; 28 Leads; Row Spacing 15.24 mm; Pitch 2.54 mm)
pins: 1 ~{CS} (in), 2 R/~{W} (in), 3 A0 (in), 4 A1 (in), 5 DAL0 (io), 6 DAL1 (io), 7 DAL2 (io), 8 DAL3 (io), 9 DAL4 (io), 10 DAL5 (io), 11 DAL6 (io), 12 DAL7 (io), 13 ~{MR} (in), 14 GND (power), 15 VCC (power), 16 STEP (out), 17 DIRC (out), 18 CLK (in), 19 RD (in), 20 MO (out), 21 WG (out), 22 WD (out), 23 TR00 (in), 24 ~{IP} (in), 25 WPRT (in), 26 DDEN (in), 27 DRQ (out), 28 INTRQ (out)

## WD1773AH
designator U?
Floppy Disk Controller/Formatter; PackageDocument: 1984; Published: 8-Jun-2000; LatestRevisionDate: 4-Mar-2005; LatestRevisionNote: Stylized 3D Model Added.; DatasheetDocument: 1984; PackageReference: AH28; Publisher: Altium Limited; ComponentLink1Description: Manufacturer Link; ComponentLink1URL: http://www.wdc.com/
footprint AH28 (DIP; 28 Leads; Row Spacing 15.24 mm; Pitch 2.54 mm)
3D model AH28 (DIP; 28 Leads; Row Spacing 15.24 mm; Pitch 2.54 mm)
pins: 1 ~{CS} (in), 2 R/~{W} (in), 3 A0 (in), 4 A1 (in), 5 DAL0 (io), 6 DAL1 (io), 7 DAL2 (io), 8 DAL3 (io), 9 DAL4 (io), 10 DAL5 (io), 11 DAL6 (io), 12 DAL7 (io), 13 ~{MR} (in), 14 GND (power), 15 VCC (power), 16 STEP (out), 17 DIRC (out), 18 CLK (in), 19 RD (in), 20 END/ROY (in), 21 WG (out), 22 WD (out), 23 TR00 (in), 24 ~{IP} (in), 25 WPRT (in), 26 DDEN (in), 27 DRQ (out), 28 INTRQ (out)

## WD1773CH
designator U?
Floppy Disk Controller/Formatter; PackageDocument: 1984; Published: 8-Jun-2000; LatestRevisionDate: 4-Mar-2005; LatestRevisionNote: Stylized 3D Model Added.; DatasheetDocument: 1984; PackageReference: CH28; Publisher: Altium Limited; ComponentLink1Description: Manufacturer Link; ComponentLink1URL: http://www.wdc.com/
footprint CH28 (DIP; 28 Leads; Row Spacing 15.24 mm; Pitch 2.54 mm)
3D model PH28 (DIP; 28 Leads; Row Spacing 15.24 mm; Pitch 2.54 mm)
pins: 1 ~{CS} (in), 2 R/~{W} (in), 3 A0 (in), 4 A1 (in), 5 DAL0 (io), 6 DAL1 (io), 7 DAL2 (io), 8 DAL3 (io), 9 DAL4 (io), 10 DAL5 (io), 11 DAL6 (io), 12 DAL7 (io), 13 ~{MR} (in), 14 GND (power), 15 VCC (power), 16 STEP (out), 17 DIRC (out), 18 CLK (in), 19 RD (in), 20 END/ROY (in), 21 WG (out), 22 WD (out), 23 TR00 (in), 24 ~{IP} (in), 25 WPRT (in), 26 DDEN (in), 27 DRQ (out), 28 INTRQ (out)

## WD1773PH
designator U?
Floppy Disk Controller/Formatter; PackageDocument: 1984; Published: 8-Jun-2000; LatestRevisionDate: 4-Mar-2005; LatestRevisionNote: Stylized 3D Model Added.; DatasheetDocument: 1984; PackageReference: PH28; Publisher: Altium Limited; ComponentLink1Description: Manufacturer Link; ComponentLink1URL: http://www.wdc.com/
footprint PH28 (DIP; 28 Leads; Row Spacing 15.24 mm; Pitch 2.54 mm)
3D model PH28 (DIP; 28 Leads; Row Spacing 15.24 mm; Pitch 2.54 mm)
pins: 1 ~{CS} (in), 2 R/~{W} (in), 3 A0 (in), 4 A1 (in), 5 DAL0 (io), 6 DAL1 (io), 7 DAL2 (io), 8 DAL3 (io), 9 DAL4 (io), 10 DAL5 (io), 11 DAL6 (io), 12 DAL7 (io), 13 ~{MR} (in), 14 GND (power), 15 VCC (power), 16 STEP (out), 17 DIRC (out), 18 CLK (in), 19 RD (in), 20 END/ROY (in), 21 WG (out), 22 WD (out), 23 TR00 (in), 24 ~{IP} (in), 25 WPRT (in), 26 DDEN (in), 27 DRQ (out), 28 INTRQ (out)

## WD2791-02AL
designator U?
Floppy Disk Formatter/Controller; PackageDocument: 1984; Published: 8-Jun-2000; LatestRevisionDate: 4-Mar-2005; LatestRevisionNote: Stylized 3D Model Added.; DatasheetDocument: 1984; PackageReference: AL40; Publisher: Altium Limited; ComponentLink1Description: Manufacturer Link; ComponentLink1URL: http://www.wdc.com/
footprint AL40 (DIP; 40 Leads; Row Spacing 15.24 mm; Pitch 2.54 mm)
3D model AL40 (DIP; 40 Leads; Row Spacing 15.24 mm; Pitch 2.54 mm)
pins: 1 ENP (in), 2 ~{WE} (in), 3 ~{CS} (in), 4 ~{RE} (in), 5 A0 (in), 6 A1 (in), 7 DAL0 (io), 8 DAL1 (io), 9 DAL2 (io), 10 DAL3 (io), 11 DAL4 (io), 12 DAL5 (io), 13 DAL6 (io), 14 DAL7 (io), 15 STEP (out), 16 DIRC (out), 17 ~{5}/8 (in), 18 RPW (in), 19 ~{MR} (in), 20 GND (power), 21 VCC (power), 22 TEST (in), 23 PUMP (hiz), 24 CLK (in), 25 ENMF (in), 26 VCO, 27 ~{RAWREAD} (in), 28 HLD (out), 29 TG43 (out), 30 WG (out), 31 WD (out), 32 READY (in), 33 WPW (in), 34 ~{TR00} (in), 35 I~{P} (in), 36 ~{WP}~{RT} (in), 37 ~{DDEN} (in), 38 DRQ (out), 39 INTRQ (out), 40 HLT (in)

## WD2791-02CL
designator U?
Floppy Disk Formatter/Controller; PackageDocument: 1984; Published: 8-Jun-2000; LatestRevisionDate: 4-Mar-2005; LatestRevisionNote: Stylized 3D Model Added.; DatasheetDocument: 1984; PackageReference: CL40; Publisher: Altium Limited; ComponentLink1Description: Manufacturer Link; ComponentLink1URL: http://www.wdc.com/
footprint CL40 (DIP; 40 Leads; Row Spacing 15.24 mm; Pitch 2.54 mm)
3D model PL40 (DIP; 40 Leads; Row Spacing 15.24 mm; Pitch 2.54 mm)
pins: 1 ENP (in), 2 ~{WE} (in), 3 ~{CS} (in), 4 ~{RE} (in), 5 A0 (in), 6 A1 (in), 7 DAL0 (io), 8 DAL1 (io), 9 DAL2 (io), 10 DAL3 (io), 11 DAL4 (io), 12 DAL5 (io), 13 DAL6 (io), 14 DAL7 (io), 15 STEP (out), 16 DIRC (out), 17 ~{5}/8 (in), 18 RPW (in), 19 ~{MR} (in), 20 GND (power), 21 VCC (power), 22 TEST (in), 23 PUMP (hiz), 24 CLK (in), 25 ENMF (in), 26 VCO, 27 ~{RAWREAD} (in), 28 HLD (out), 29 TG43 (out), 30 WG (out), 31 WD (out), 32 READY (in), 33 WPW (in), 34 ~{TR00} (in), 35 I~{P} (in), 36 ~{WP}~{RT} (in), 37 ~{DDEN} (in), 38 DRQ (out), 39 INTRQ (out), 40 HLT (in)

## WD2791-02PL
designator U?
Floppy Disk Formatter/Controller; PackageDocument: 1984; Published: 8-Jun-2000; LatestRevisionDate: 4-Mar-2005; LatestRevisionNote: Stylized 3D Model Added.; DatasheetDocument: 1984; PackageReference: PL40; Publisher: Altium Limited; ComponentLink1Description: Manufacturer Link; ComponentLink1URL: http://www.wdc.com/
footprint PL40 (DIP; 40 Leads; Row Spacing 15.24 mm; Pitch 2.54 mm)
3D model PL40 (DIP; 40 Leads; Row Spacing 15.24 mm; Pitch 2.54 mm)
pins: 1 ENP (in), 2 ~{WE} (in), 3 ~{CS} (in), 4 ~{RE} (in), 5 A0 (in), 6 A1 (in), 7 DAL0 (io), 8 DAL1 (io), 9 DAL2 (io), 10 DAL3 (io), 11 DAL4 (io), 12 DAL5 (io), 13 DAL6 (io), 14 DAL7 (io), 15 STEP (out), 16 DIRC (out), 17 ~{5}/8 (in), 18 RPW (in), 19 ~{MR} (in), 20 GND (power), 21 VCC (power), 22 TEST (in), 23 PUMP (hiz), 24 CLK (in), 25 ENMF (in), 26 VCO, 27 ~{RAWREAD} (in), 28 HLD (out), 29 TG43 (out), 30 WG (out), 31 WD (out), 32 READY (in), 33 WPW (in), 34 ~{TR00} (in), 35 I~{P} (in), 36 ~{WP}~{RT} (in), 37 ~{DDEN} (in), 38 DRQ (out), 39 INTRQ (out), 40 HLT (in)

## WD2793-02AL
designator U?
Floppy Disk Formatter/Controller; PackageDocument: 1984; Published: 8-Jun-2000; LatestRevisionDate: 4-Mar-2005; LatestRevisionNote: Stylized 3D Model Added.; DatasheetDocument: 1984; PackageReference: AL40; Publisher: Altium Limited; ComponentLink1Description: Manufacturer Link; ComponentLink1URL: http://www.wdc.com/
footprint AL40 (DIP; 40 Leads; Row Spacing 15.24 mm; Pitch 2.54 mm)
3D model AL40 (DIP; 40 Leads; Row Spacing 15.24 mm; Pitch 2.54 mm)
pins: 1 ENP (in), 2 ~{WE} (in), 3 ~{CS} (in), 4 ~{RE} (in), 5 A0 (in), 6 A1 (in), 7 DAL0 (io), 8 DAL1 (io), 9 DAL2 (io), 10 DAL3 (io), 11 DAL4 (io), 12 DAL5 (io), 13 DAL6 (io), 14 DAL7 (io), 15 STEP (out), 16 DIRC (out), 17 ~{5}/8 (in), 18 RPW (in), 19 ~{MR} (in), 20 GND (power), 21 VCC (power), 22 TEST (in), 23 PUMP (hiz), 24 CLK (in), 25 ENMF (in), 26 VCO, 27 ~{RAWREAD} (in), 28 HLD (out), 29 TG43 (out), 30 WG (out), 31 WD (out), 32 READY (in), 33 WPW (in), 34 ~{TR00} (in), 35 I~{P} (in), 36 ~{WP}~{RT} (in), 37 ~{DDEN} (in), 38 DRQ (out), 39 INTRQ (out), 40 HLT (in)

## WD2793-02CL
designator U?
Floppy Disk Formatter/Controller; PackageDocument: 1984; Published: 8-Jun-2000; LatestRevisionDate: 4-Mar-2005; LatestRevisionNote: Stylized 3D Model Added.; DatasheetDocument: 1984; PackageReference: CL40; Publisher: Altium Limited; ComponentLink1Description: Manufacturer Link; ComponentLink1URL: http://www.wdc.com/
footprint CL40 (DIP; 40 Leads; Row Spacing 15.24 mm; Pitch 2.54 mm)
3D model PL40 (DIP; 40 Leads; Row Spacing 15.24 mm; Pitch 2.54 mm)
pins: 1 ENP (in), 2 ~{WE} (in), 3 ~{CS} (in), 4 ~{RE} (in), 5 A0 (in), 6 A1 (in), 7 DAL0 (io), 8 DAL1 (io), 9 DAL2 (io), 10 DAL3 (io), 11 DAL4 (io), 12 DAL5 (io), 13 DAL6 (io), 14 DAL7 (io), 15 STEP (out), 16 DIRC (out), 17 ~{5}/8 (in), 18 RPW (in), 19 ~{MR} (in), 20 GND (power), 21 VCC (power), 22 TEST (in), 23 PUMP (hiz), 24 CLK (in), 25 ENMF (in), 26 VCO, 27 ~{RAWREAD} (in), 28 HLD (out), 29 TG43 (out), 30 WG (out), 31 WD (out), 32 READY (in), 33 WPW (in), 34 ~{TR00} (in), 35 I~{P} (in), 36 ~{WP}~{RT} (in), 37 ~{DDEN} (in), 38 DRQ (out), 39 INTRQ (out), 40 HLT (in)

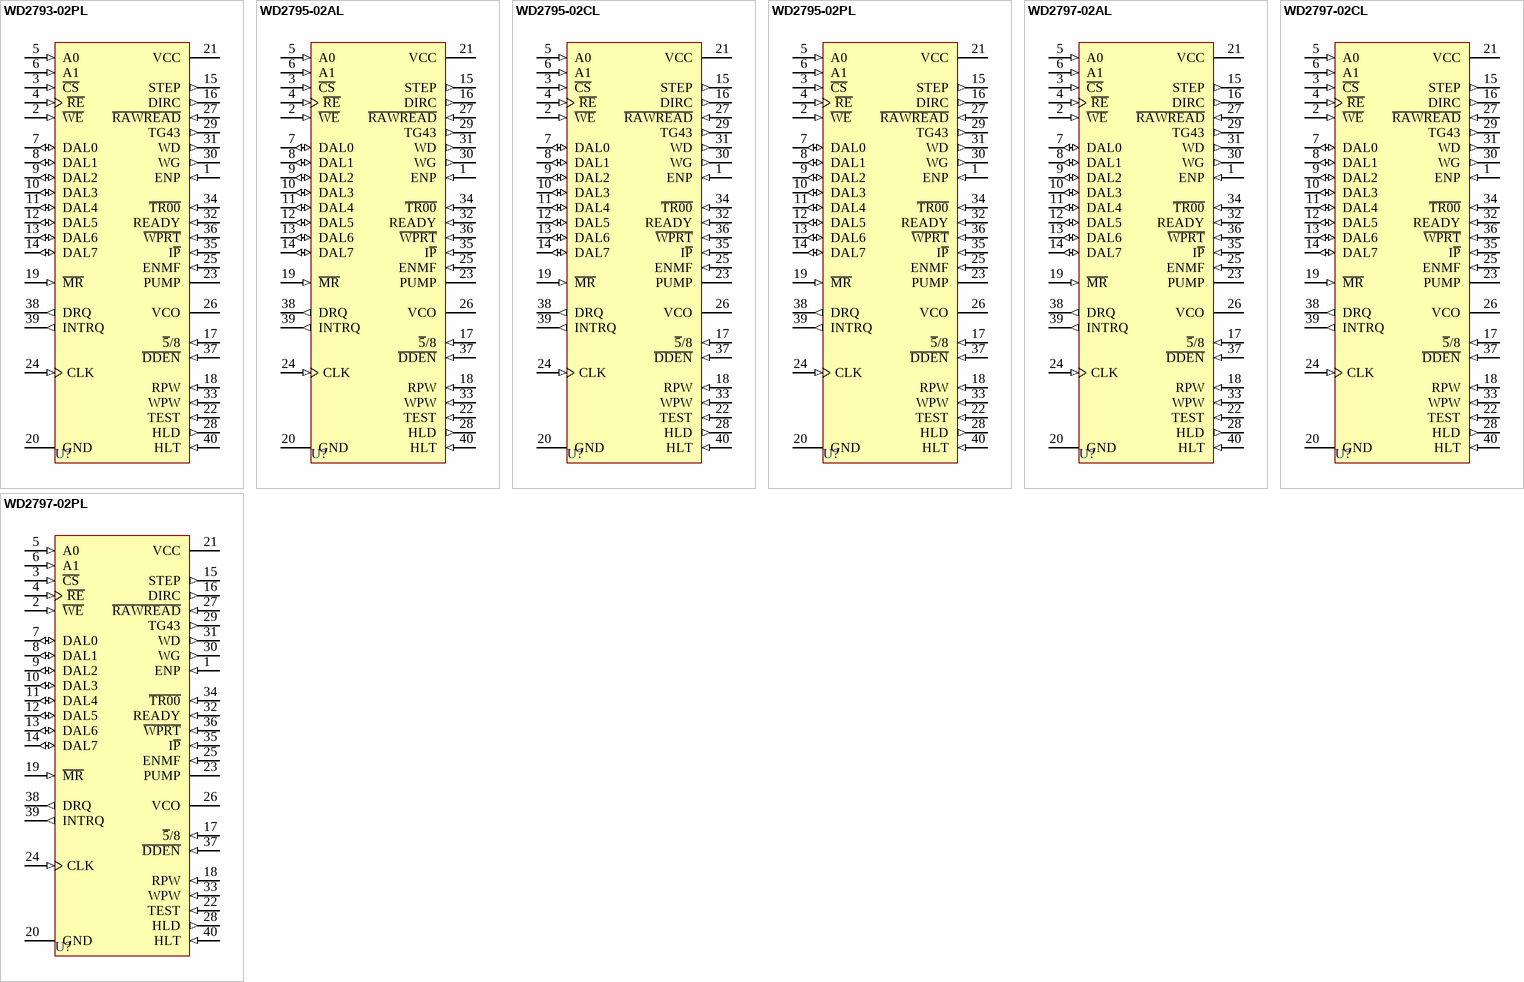
[diagram p2: symbols WD2793-02PL to WD2797-02PL]

## WD2793-02PL
designator U?
Floppy Disk Formatter/Controller; PackageDocument: 1984; Published: 8-Jun-2000; LatestRevisionDate: 4-Mar-2005; LatestRevisionNote: Stylized 3D Model Added.; DatasheetDocument: 1984; PackageReference: PL40; Publisher: Altium Limited; ComponentLink1Description: Manufacturer Link; ComponentLink1URL: http://www.wdc.com/
footprint PL40 (DIP; 40 Leads; Row Spacing 15.24 mm; Pitch 2.54 mm)
3D model PL40 (DIP; 40 Leads; Row Spacing 15.24 mm; Pitch 2.54 mm)
pins: 1 ENP (in), 2 ~{WE} (in), 3 ~{CS} (in), 4 ~{RE} (in), 5 A0 (in), 6 A1 (in), 7 DAL0 (io), 8 DAL1 (io), 9 DAL2 (io), 10 DAL3 (io), 11 DAL4 (io), 12 DAL5 (io), 13 DAL6 (io), 14 DAL7 (io), 15 STEP (out), 16 DIRC (out), 17 ~{5}/8 (in), 18 RPW (in), 19 ~{MR} (in), 20 GND (power), 21 VCC (power), 22 TEST (in), 23 PUMP (hiz), 24 CLK (in), 25 ENMF (in), 26 VCO, 27 ~{RAWREAD} (in), 28 HLD (out), 29 TG43 (out), 30 WG (out), 31 WD (out), 32 READY (in), 33 WPW (in), 34 ~{TR00} (in), 35 I~{P} (in), 36 ~{WP}~{RT} (in), 37 ~{DDEN} (in), 38 DRQ (out), 39 INTRQ (out), 40 HLT (in)

## WD2795-02AL
designator U?
Floppy Disk Formatter/Controller; PackageDocument: 1984; Published: 8-Jun-2000; LatestRevisionDate: 4-Mar-2005; LatestRevisionNote: Stylized 3D Model Added.; DatasheetDocument: 1984; PackageReference: AL40; Publisher: Altium Limited; ComponentLink1Description: Manufacturer Link; ComponentLink1URL: http://www.wdc.com/
footprint AL40 (DIP; 40 Leads; Row Spacing 15.24 mm; Pitch 2.54 mm)
3D model AL40 (DIP; 40 Leads; Row Spacing 15.24 mm; Pitch 2.54 mm)
pins: 1 ENP (in), 2 ~{WE} (in), 3 ~{CS} (in), 4 ~{RE} (in), 5 A0 (in), 6 A1 (in), 7 DAL0 (io), 8 DAL1 (io), 9 DAL2 (io), 10 DAL3 (io), 11 DAL4 (io), 12 DAL5 (io), 13 DAL6 (io), 14 DAL7 (io), 15 STEP (out), 16 DIRC (out), 17 ~{5}/8 (in), 18 RPW (in), 19 ~{MR} (in), 20 GND (power), 21 VCC (power), 22 TEST (in), 23 PUMP (hiz), 24 CLK (in), 25 ENMF (in), 26 VCO, 27 ~{RAWREAD} (in), 28 HLD (out), 29 TG43 (out), 30 WG (out), 31 WD (out), 32 READY (in), 33 WPW (in), 34 ~{TR00} (in), 35 I~{P} (in), 36 ~{WP}~{RT} (in), 37 ~{DDEN} (in), 38 DRQ (out), 39 INTRQ (out), 40 HLT (in)

## WD2795-02CL
designator U?
Floppy Disk Formatter/Controller; PackageDocument: 1984; Published: 8-Jun-2000; LatestRevisionDate: 4-Mar-2005; LatestRevisionNote: Stylized 3D Model Added.; DatasheetDocument: 1984; PackageReference: CL40; Publisher: Altium Limited; ComponentLink1Description: Manufacturer Link; ComponentLink1URL: http://www.wdc.com/
footprint CL40 (DIP; 40 Leads; Row Spacing 15.24 mm; Pitch 2.54 mm)
3D model PL40 (DIP; 40 Leads; Row Spacing 15.24 mm; Pitch 2.54 mm)
pins: 1 ENP (in), 2 ~{WE} (in), 3 ~{CS} (in), 4 ~{RE} (in), 5 A0 (in), 6 A1 (in), 7 DAL0 (io), 8 DAL1 (io), 9 DAL2 (io), 10 DAL3 (io), 11 DAL4 (io), 12 DAL5 (io), 13 DAL6 (io), 14 DAL7 (io), 15 STEP (out), 16 DIRC (out), 17 ~{5}/8 (in), 18 RPW (in), 19 ~{MR} (in), 20 GND (power), 21 VCC (power), 22 TEST (in), 23 PUMP (hiz), 24 CLK (in), 25 ENMF (in), 26 VCO, 27 ~{RAWREAD} (in), 28 HLD (out), 29 TG43 (out), 30 WG (out), 31 WD (out), 32 READY (in), 33 WPW (in), 34 ~{TR00} (in), 35 I~{P} (in), 36 ~{WP}~{RT} (in), 37 ~{DDEN} (in), 38 DRQ (out), 39 INTRQ (out), 40 HLT (in)

## WD2795-02PL
designator U?
Floppy Disk Formatter/Controller; PackageDocument: 1984; Published: 8-Jun-2000; LatestRevisionDate: 4-Mar-2005; LatestRevisionNote: Stylized 3D Model Added.; DatasheetDocument: 1984; PackageReference: PL40; Publisher: Altium Limited; ComponentLink1Description: Manufacturer Link; ComponentLink1URL: http://www.wdc.com/
footprint PL40 (DIP; 40 Leads; Row Spacing 15.24 mm; Pitch 2.54 mm)
3D model PL40 (DIP; 40 Leads; Row Spacing 15.24 mm; Pitch 2.54 mm)
pins: 1 ENP (in), 2 ~{WE} (in), 3 ~{CS} (in), 4 ~{RE} (in), 5 A0 (in), 6 A1 (in), 7 DAL0 (io), 8 DAL1 (io), 9 DAL2 (io), 10 DAL3 (io), 11 DAL4 (io), 12 DAL5 (io), 13 DAL6 (io), 14 DAL7 (io), 15 STEP (out), 16 DIRC (out), 17 ~{5}/8 (in), 18 RPW (in), 19 ~{MR} (in), 20 GND (power), 21 VCC (power), 22 TEST (in), 23 PUMP (hiz), 24 CLK (in), 25 ENMF (in), 26 VCO, 27 ~{RAWREAD} (in), 28 HLD (out), 29 TG43 (out), 30 WG (out), 31 WD (out), 32 READY (in), 33 WPW (in), 34 ~{TR00} (in), 35 I~{P} (in), 36 ~{WP}~{RT} (in), 37 ~{DDEN} (in), 38 DRQ (out), 39 INTRQ (out), 40 HLT (in)

## WD2797-02AL
designator U?
Floppy Disk Formatter/Controller; PackageDocument: 1984; Published: 8-Jun-2000; LatestRevisionDate: 4-Mar-2005; LatestRevisionNote: Stylized 3D Model Added.; DatasheetDocument: 1984; PackageReference: AL40; Publisher: Altium Limited; ComponentLink1Description: Manufacturer Link; ComponentLink1URL: http://www.wdc.com/
footprint AL40 (DIP; 40 Leads; Row Spacing 15.24 mm; Pitch 2.54 mm)
3D model AL40 (DIP; 40 Leads; Row Spacing 15.24 mm; Pitch 2.54 mm)
pins: 1 ENP (in), 2 ~{WE} (in), 3 ~{CS} (in), 4 ~{RE} (in), 5 A0 (in), 6 A1 (in), 7 DAL0 (io), 8 DAL1 (io), 9 DAL2 (io), 10 DAL3 (io), 11 DAL4 (io), 12 DAL5 (io), 13 DAL6 (io), 14 DAL7 (io), 15 STEP (out), 16 DIRC (out), 17 ~{5}/8 (in), 18 RPW (in), 19 ~{MR} (in), 20 GND (power), 21 VCC (power), 22 TEST (in), 23 PUMP (hiz), 24 CLK (in), 25 ENMF (in), 26 VCO, 27 ~{RAWREAD} (in), 28 HLD (out), 29 TG43 (out), 30 WG (out), 31 WD (out), 32 READY (in), 33 WPW (in), 34 ~{TR00} (in), 35 I~{P} (in), 36 ~{WP}~{RT} (in), 37 ~{DDEN} (in), 38 DRQ (out), 39 INTRQ (out), 40 HLT (in)

## WD2797-02CL
designator U?
Floppy Disk Formatter/Controller; PackageDocument: 1984; Published: 8-Jun-2000; LatestRevisionDate: 4-Mar-2005; LatestRevisionNote: Stylized 3D Model Added.; DatasheetDocument: 1984; PackageReference: CL40; Publisher: Altium Limited; ComponentLink1Description: Manufacturer Link; ComponentLink1URL: http://www.wdc.com/
footprint CL40 (DIP; 40 Leads; Row Spacing 15.24 mm; Pitch 2.54 mm)
3D model PL40 (DIP; 40 Leads; Row Spacing 15.24 mm; Pitch 2.54 mm)
pins: 1 ENP (in), 2 ~{WE} (in), 3 ~{CS} (in), 4 ~{RE} (in), 5 A0 (in), 6 A1 (in), 7 DAL0 (io), 8 DAL1 (io), 9 DAL2 (io), 10 DAL3 (io), 11 DAL4 (io), 12 DAL5 (io), 13 DAL6 (io), 14 DAL7 (io), 15 STEP (out), 16 DIRC (out), 17 ~{5}/8 (in), 18 RPW (in), 19 ~{MR} (in), 20 GND (power), 21 VCC (power), 22 TEST (in), 23 PUMP (hiz), 24 CLK (in), 25 ENMF (in), 26 VCO, 27 ~{RAWREAD} (in), 28 HLD (out), 29 TG43 (out), 30 WG (out), 31 WD (out), 32 READY (in), 33 WPW (in), 34 ~{TR00} (in), 35 I~{P} (in), 36 ~{WP}~{RT} (in), 37 ~{DDEN} (in), 38 DRQ (out), 39 INTRQ (out), 40 HLT (in)

## WD2797-02PL
designator U?
Floppy Disk Formatter/Controller; PackageDocument: 1984; Published: 8-Jun-2000; LatestRevisionDate: 4-Mar-2005; LatestRevisionNote: Stylized 3D Model Added.; DatasheetDocument: 1984; PackageReference: PL40; Publisher: Altium Limited; ComponentLink1Description: Manufacturer Link; ComponentLink1URL: http://www.wdc.com/
footprint PL40 (DIP; 40 Leads; Row Spacing 15.24 mm; Pitch 2.54 mm)
3D model PL40 (DIP; 40 Leads; Row Spacing 15.24 mm; Pitch 2.54 mm)
pins: 1 ENP (in), 2 ~{WE} (in), 3 ~{CS} (in), 4 ~{RE} (in), 5 A0 (in), 6 A1 (in), 7 DAL0 (io), 8 DAL1 (io), 9 DAL2 (io), 10 DAL3 (io), 11 DAL4 (io), 12 DAL5 (io), 13 DAL6 (io), 14 DAL7 (io), 15 STEP (out), 16 DIRC (out), 17 ~{5}/8 (in), 18 RPW (in), 19 ~{MR} (in), 20 GND (power), 21 VCC (power), 22 TEST (in), 23 PUMP (hiz), 24 CLK (in), 25 ENMF (in), 26 VCO, 27 ~{RAWREAD} (in), 28 HLD (out), 29 TG43 (out), 30 WG (out), 31 WD (out), 32 READY (in), 33 WPW (in), 34 ~{TR00} (in), 35 I~{P} (in), 36 ~{WP}~{RT} (in), 37 ~{DDEN} (in), 38 DRQ (out), 39 INTRQ (out), 40 HLT (in)